# EAGLE library part ICE5LPX (library Custom)
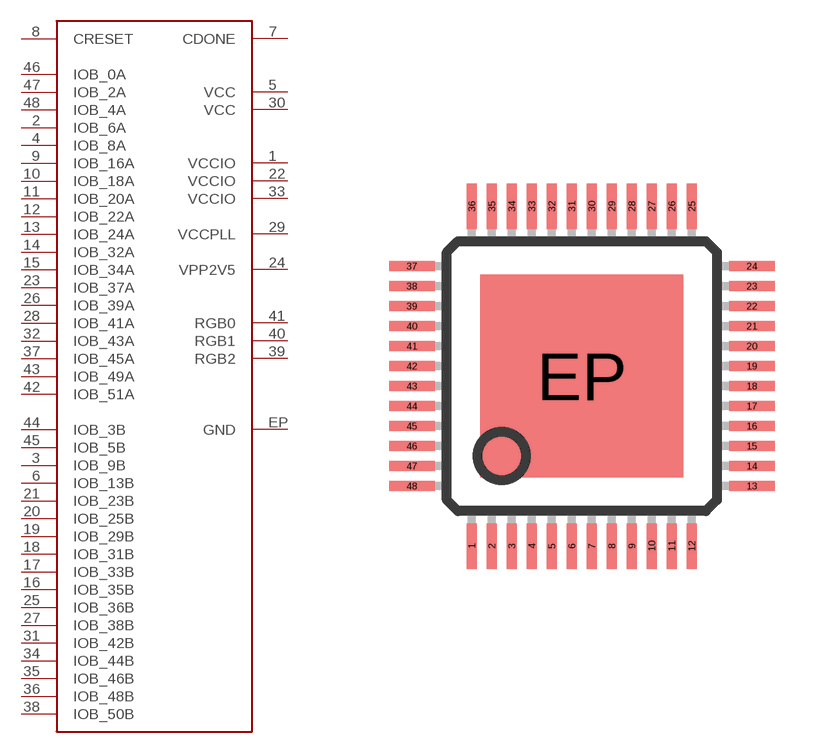
[diagram p15: symbol with the pads of QFN-48; footprint QFN-48]

Designator prefix -

## ICE5LPXQFN-48  [QFN-48]
1  VCCIO  pwr
2  IOB_6A
3  IOB_9B
4  IOB_8A
5  VCC  pwr
6  IOB_13B
7  CDONE  out
8  CRESET  in
9  IOB_16A
10  IOB_18A
11  IOB_20A
12  IOB_22A
13  IOB_24A
14  IOB_32A
15  IOB_34A
16  IOB_35B
17  IOB_33B
18  IOB_31B
19  IOB_29B
20  IOB_25B
21  IOB_23B
22  VCCIO  pwr
23  IOB_37A
24  VPP2V5
25  IOB_36B
26  IOB_39A
27  IOB_38B
28  IOB_41A
29  VCCPLL  pwr
30  VCC  pwr
31  IOB_42B
32  IOB_43A
33  VCCIO  pwr
34  IOB_44B
35  IOB_46B
36  IOB_48B
37  IOB_45A
38  IOB_50B
39  RGB2
40  RGB1
41  RGB0
42  IOB_51A
43  IOB_49A
44  IOB_3B
45  IOB_5B
46  IOB_0A
47  IOB_2A
48  IOB_4A
EP  GND

## Footprint QFN-48 (pad centres in mm)
smd 0.254 x 1.143: 1 -2.75,-4.25; 2 -2.25,-4.25; 3 -1.75,-4.25; 4 -1.25,-4.25; 5 -0.75,-4.25; 6 -0.25,-4.25; 7 0.25,-4.25; 8 0.75,-4.25; 9 1.25,-4.25; 10 1.75,-4.25; 11 2.25,-4.25; 12 2.75,-4.25; 25 2.75,4.25; 26 2.25,4.25; 27 1.75,4.25; 28 1.25,4.25; 29 0.75,4.25; 30 0.25,4.25; 31 -0.25,4.25; 32 -0.75,4.25; 33 -1.25,4.25; 34 -1.75,4.25; 35 -2.25,4.25; 36 -2.75,4.25
smd 1.143 x 0.254: 13 4.25,-2.75; 14 4.25,-2.25; 15 4.25,-1.75; 16 4.25,-1.25; 17 4.25,-0.75; 18 4.25,-0.25; 19 4.25,0.25; 20 4.25,0.75; 21 4.25,1.25; 22 4.25,1.75; 23 4.25,2.25; 24 4.25,2.75; 37 -4.25,2.75; 38 -4.25,2.25; 39 -4.25,1.75; 40 -4.25,1.25; 41 -4.25,0.75; 42 -4.25,0.25; 43 -4.25,-0.25; 44 -4.25,-0.75; 45 -4.25,-1.25; 46 -4.25,-1.75; 47 -4.25,-2.25; 48 -4.25,-2.75
smd 5.08 x 5.08: EP 0,0